# EAGLE library part APDS9300 (library squirrel)
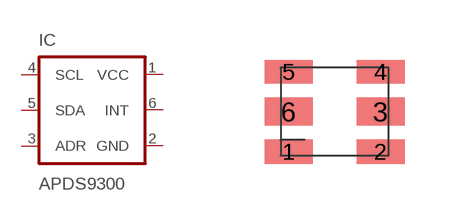
[diagram p3: symbol with the pads of APDS9300; footprint APDS9300]

Designator prefix IC

## APDS9300  [APDS9300]
1  VCC  pwr
2  GND  pwr
3  ADR  in
4  SCL
5  SDA
6  INT  out

## Footprint APDS9300 (pad centres in mm)
smd 1.2 x 0.6: 1 0.6,0.3; 2 2.9,0.3; 4 2.9,2.3; 5 0.6,2.3
smd 1.2 x 0.7: 3 2.9,1.3; 6 0.6,1.3